# Altium footprint library my_lib.PcbLib: 68 footprints (part 4 of 5)
Each footprint in its own frame and in the unit in brackets; x right, y up, seen from the top. Pads: shape width x height; smd on the part's side, far side on the other; paste and mask are expansions set on the pad; w line width, h text height; cw(c..) or ccw(c..) is an arc to the next point about the centre after c.
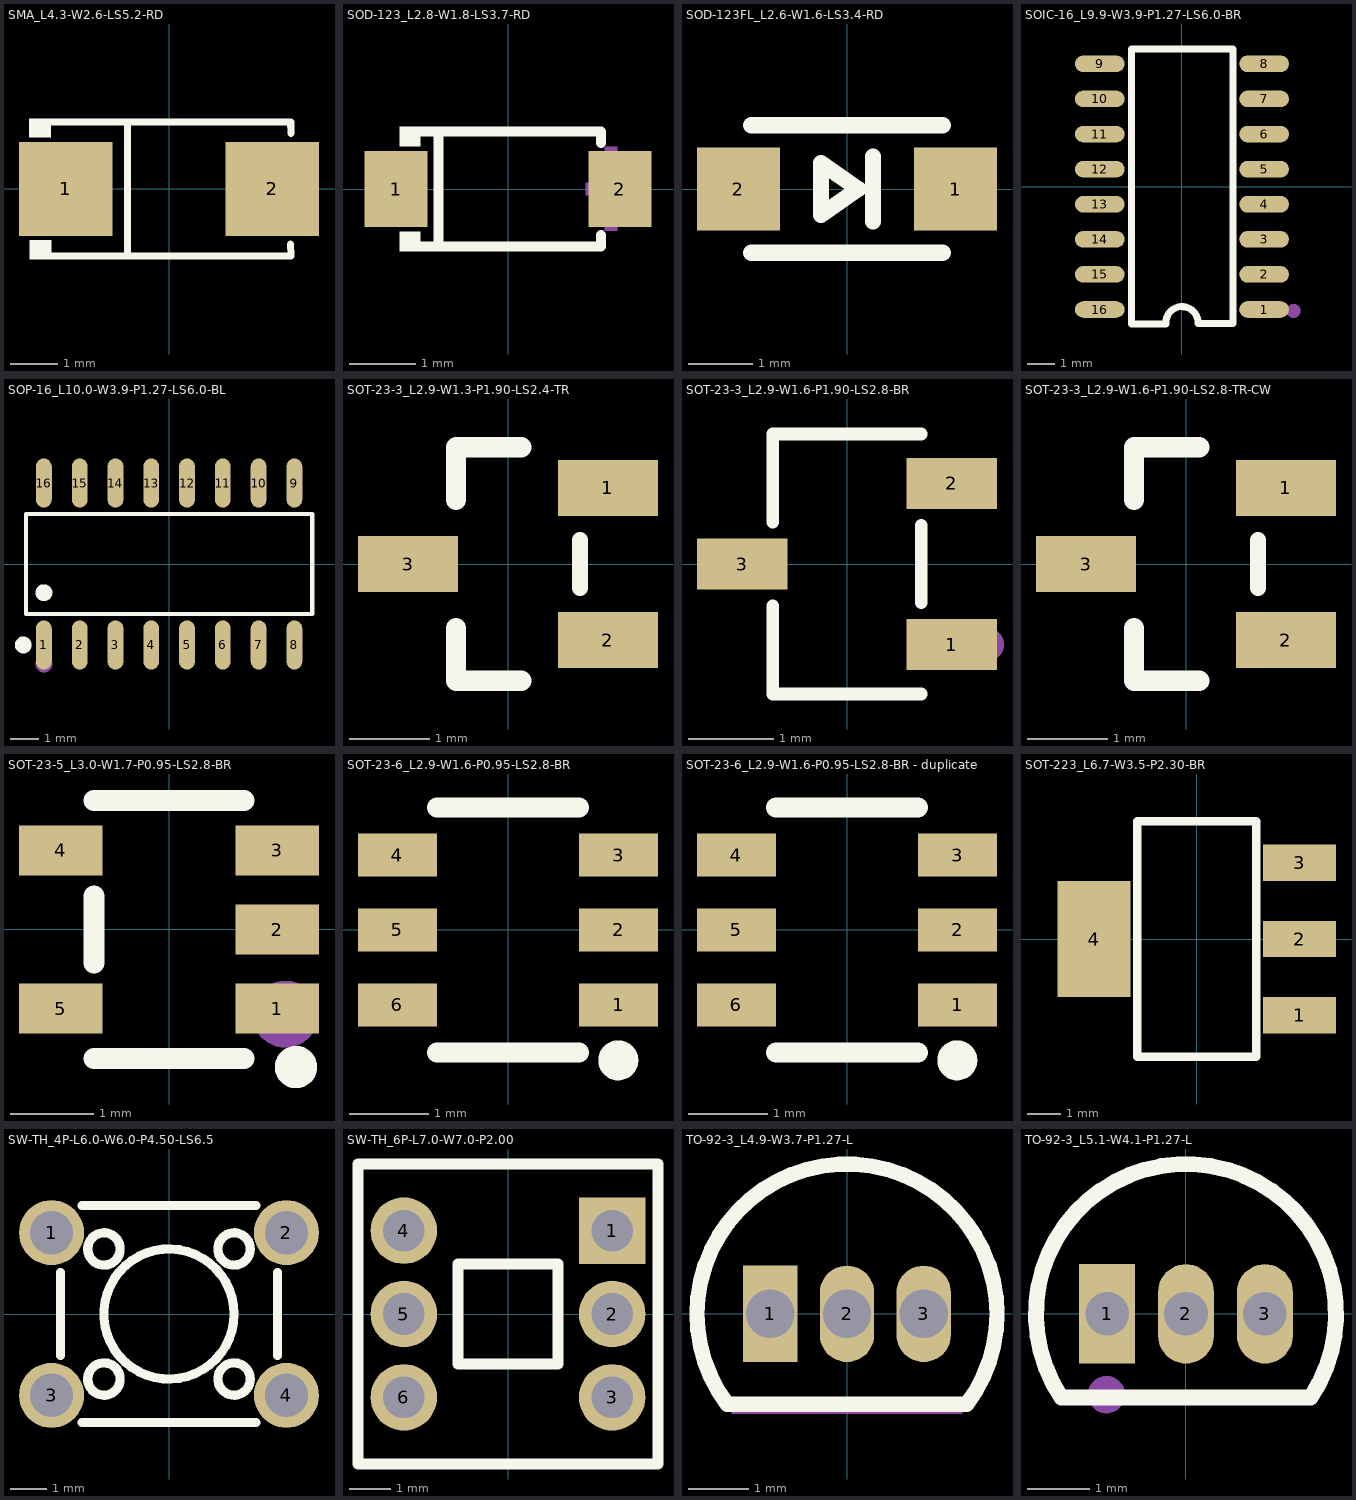
[diagram p3: the footprints below, top view; thin cyan lines are the x and y axes]

## SMA_L4.3-W2.6-LS5.2-RD [mm]
pads (2):
  rect 2x2 smd: 1(-2.2,0) 2(2.2,0)
Top Overlay:
  region: -2.512,-1.096 -2.513,-1.503 -2.973,-1.498 -2.969,-1.096
  region: -2.52,1.502 -2.521,1.096 -2.981,1.1 -2.977,1.502
  lines w0.152: -2.596,-1.426 2.596,-1.426 ; -2.596,1.426 2.596,1.426 2.603,1.187 ; -0.884,-1.426 -0.884,1.426 ; 2.593,-1.176 2.6,-1.415
Mechanical 15:
  region: 2.014,-0.675 2.014,0.675 1.811,0.675 1.811,-0.675
  region: 2.317,-0.101 2.317,0.101 1.507,0.101 1.507,-0.101
  region: -2.317,-0.101 -2.317,0.101 -1.507,0.101 -1.507,-0.101

## SOD-123_L2.8-W1.8-LS3.7-RD [mm]
pads (2):
  rect 0.95x1.15 smd: 1(-1.693,0) 2(1.693,0)
Top Overlay:
  region: -1.33,-0.942 -1.33,-0.647 -1.635,-0.647 -1.635,-0.942
  region: -1.33,0.942 -1.33,0.647 -1.635,0.647 -1.635,0.942
  lines w0.152: -1.406,-0.866 1.406,-0.866 1.406,-0.698 ; -1.406,0.866 1.406,0.866 1.406,0.698 ; -1.049,-0.866 -1.049,0.866
Mechanical 15:
  region: 1.651,0.635 1.651,-0.629 1.461,-0.629 1.461,0.635
  region: 1.935,0.098 1.935,-0.092 1.177,-0.092 1.177,0.098
  region: -2.03,0.095 -2.03,-0.095 -1.272,-0.095 -1.272,0.095

## SOD-123FL_L2.6-W1.6-LS3.4-RD [mm]
pads (2):
  rect 1.3x1.3 smd: 1(1.7,0) 2(-1.7,0)
Top Overlay:
  lines w0.254: -1.5,-1 1.5,-1 ; -1.5,1 1.5,1 ; 0.406,-0.508 0.406,0.508 ; -0.406,-0.406 -0.406,0.406 0.178,0 -0.406,-0.406
Mechanical 15:
  region: 1.35,0.05 2.082,0.05 2.082,-0.16 1.35,-0.16
  region: -1.85,0.55 -1.6,0.55 -1.6,-0.4 -1.85,-0.4
  region: -2.115,0.213 -1.383,0.213 -1.383,0.003 -2.115,0.003

## SOIC-16_L9.9-W3.9-P1.27-LS6.0-BR [mm]
pads (16):
  oval 1.8x0.6 smd: 1(2.972,-4.445) 2(2.972,-3.175) 3(2.972,-1.905) 4(2.972,-0.635) 5(2.972,0.635) 6(2.972,1.905) 7(2.972,3.175) 8(2.972,4.445) 9(-2.972,4.445) 10(-2.972,3.175) 11(-2.972,1.905) 12(-2.972,0.635) 13(-2.972,-0.635) 14(-2.972,-1.905) 15(-2.972,-3.175) 16(-2.972,-4.445)
Top Overlay:
  lines w0.254: -0.584,-4.976 -1.829,-4.976 -1.829,4.976 1.854,4.976 1.854,-4.928 ; -0.584,-4.95 cw(c0,-4.928) 0.584,-4.953 1.854,-4.953
Mechanical 15:
  circle w0.254: c4.039,-4.496 r0.127

## SOP-16_L10.0-W3.9-P1.27-LS6.0-BL [mm]
pads (16):
  oval 0.56x1.745 smd: 1(-4.445,-2.873) 2(-3.175,-2.873) 3(-1.905,-2.873) 4(-0.635,-2.873) 5(0.635,-2.873) 6(1.905,-2.873) 7(3.175,-2.873) 8(4.445,-2.873) 9(4.445,2.873) 10(3.175,2.873) 11(1.905,2.873) 12(0.635,2.873) 13(-0.635,2.873) 14(-1.905,2.873) 15(-3.175,2.873) 16(-4.445,2.873)
Top Overlay:
  circle w0.3: c-5.177,-2.872 r0.15
  circle w0.3: c-4.445,-1.019 r0.15
  lines w0.152: -5.076,-1.771 5.076,-1.771 5.076,1.771 -5.076,1.771 -5.076,-1.771
Mechanical 15:
  circle w0.3: c-4.445,-3.55 r0.15

## SOT-23-3_L2.9-W1.3-P1.90-LS2.4-TR [mm]
pads (3):
  rect 1.25x0.7 smd: 1(1.25,0.95) 2(1.25,-0.95) 3(-1.25,0)
Top Overlay:
  lines w0.2: 0.9,-0.3 0.9,0.3
  lines w0.254: -0.65,-0.8 -0.65,-1.46 0.165,-1.46 ; 0.165,1.46 -0.65,1.46 ; -0.65,0.8 -0.65,1.46 ; -0.65,0.8 -0.65,1.46 ; -0.65,0.8 -0.65,1.46
Mechanical 15:
  circle w0.254: c1.496,0.945 r0.127

## SOT-23-3_L2.9-W1.6-P1.90-LS2.8-BR [mm]
pads (3):
  rect 1.07x0.6 smd: 1(1.235,-0.95) 2(1.235,0.95) 3(-1.235,0)
Top Overlay:
  lines w0.152: -0.876,-0.495 -0.876,-1.536 0.876,-1.536 ; -0.876,0.495 -0.876,1.536 0.876,1.536 ; 0.876,-0.455 0.876,0.455
Mechanical 15:
  circle w0.2: c1.651,-0.95 r0.1

## SOT-23-3_L2.9-W1.6-P1.90-LS2.8-TR-CW [mm]
pads (3):
  rect 1.25x0.7 smd: 1(1.25,0.95) 2(1.25,-0.95) 3(-1.25,0)
Top Overlay:
  lines w0.2: 0.9,-0.3 0.9,0.3
  lines w0.254: -0.65,-0.8 -0.65,-1.46 0.165,-1.46 ; 0.165,1.46 -0.65,1.46 ; -0.65,0.8 -0.65,1.46 ; -0.65,0.8 -0.65,1.46 ; -0.65,0.8 -0.65,1.46

## SOT-23-5_L3.0-W1.7-P0.95-LS2.8-BR [mm]
pads (5):
  rect 1x0.6 smd: 1(1.3,-0.95) 2(1.3,0) 3(1.3,0.95) 4(-1.3,0.95) 5(-1.3,-0.95)
Top Overlay:
  circle w0.254: c1.524,-1.651 r0.127
  lines w0.254: -0.9,-1.55 0.9,-1.55 ; -0.9,-0.4 -0.9,0.4 ; -0.9,1.55 0.9,1.55
Mechanical 15:
  circle w0.4: c1.397,-1.016 r0.2

## SOT-23-6_L2.9-W1.6-P0.95-LS2.8-BR [mm]
pads (6):
  rect 1x0.55 smd: 1(1.4,-0.95) 2(1.4,0) 3(1.4,0.95) 4(-1.4,0.95) 5(-1.4,0) 6(-1.4,-0.95)
Top Overlay:
  circle w0.254: c1.397,-1.651 r0.127
  lines w0.254: -0.9,-1.55 0.9,-1.55 ; -0.9,1.55 0.9,1.55
Mechanical 15:
  circle w0.2: c1.4,-0.95 r0.1

## SOT-23-6_L2.9-W1.6-P0.95-LS2.8-BR - duplicate [mm]
pads (6):
  rect 1x0.55 smd: 1(1.4,-0.95) 2(1.4,0) 3(1.4,0.95) 4(-1.4,0.95) 5(-1.4,0) 6(-1.4,-0.95)
Top Overlay:
  circle w0.254: c1.397,-1.651 r0.127
  lines w0.254: -0.9,-1.55 0.9,-1.55 ; -0.9,1.55 0.9,1.55
Mechanical 15:
  circle w0.2: c1.4,-0.95 r0.1

## SOT-223_L6.7-W3.5-P2.30-BR [mm]
pads (4):
  rect 2.2x1.1 smd: 1(3.099,-2.3) 2(3.099,0) 3(3.099,2.3)
  rect 2.2x3.5 smd: 4(-3.099,0)
Top Overlay:
  lines w0.254: -1.8,-3.55 1.8,-3.55 1.8,3.55 -1.8,3.55 -1.8,-3.55
Mechanical 15:
  circle w0.254: c3.683,-2.286 r0.127

## SW-TH_4P-L6.0-W6.0-P4.50-LS6.5 [mm]
pads (4):
  round 1.8 hole 1.2: 1(-3.25,2.25) 2(3.25,2.25) 3(-3.25,-2.25) 4(3.25,-2.25)
Top Overlay:
  circle w0.254: c1.8,-1.8 r0.447
  circle w0.254: c-1.8,-1.8 r0.447
  circle w0.254: c-1.8,1.8 r0.447
  circle w0.254: c1.8,1.8 r0.447
  circle w0.254: c0,0 r1.8
  lines w0.254: -3,-1.147 -3,1.147 ; -2.404,-3 2.404,-3 ; -2.404,3 2.404,3 ; 3,-1.147 3,1.147

## SW-TH_6P-L7.0-W7.0-P2.00 [mm]
pads (6):
  rect 1.6x1.6 hole 1: 1(2.5,2)
  round 1.6 hole 1: 2(2.5,0) 3(2.5,-2) 4(-2.5,2) 5(-2.5,0) 6(-2.5,-2)
Top Overlay:
  lines w0.254: -3.6,-3.6 3.6,-3.6 3.6,3.6 -3.6,3.6 -3.6,-3.6 ; -1.2,-1.2 1.2,-1.2 1.2,1.2 -1.2,1.2 -1.2,-1.2

## TO-92-3_L4.9-W3.7-P1.27-L [mm]
pads (3):
  rect 0.9x1.6 hole 0.8: 1(-1.27,0)
  oval 0.9x1.6 hole 0.8: 2(0,0) 3(1.27,0)
Top Overlay:
  lines w0.254: -1.981,-1.501 cw(c0,-0.003) 1.981,-1.501 ; -1.98,-1.5 1.98,-1.5
Mechanical 15:
  region: -1.905,-1.397 1.905,-1.397 1.905,-1.651 -1.905,-1.651

## TO-92-3_L5.1-W4.1-P1.27-L [mm]
pads (3):
  rect 0.9x1.6 hole 0.7: 1(-1.27,0)
  oval 0.9x1.6 hole 0.7: 2(0,0) 3(1.27,0)
Top Overlay:
  lines w0.254: -2.005,-1.346 cw(c0,-0.003) 2.004,-1.346 -2.005,-1.346
Mechanical 15:
  circle w0.3: c-1.28,-1.3 r0.15